# EAGLE library part AVR-ISP6 (library Jim)
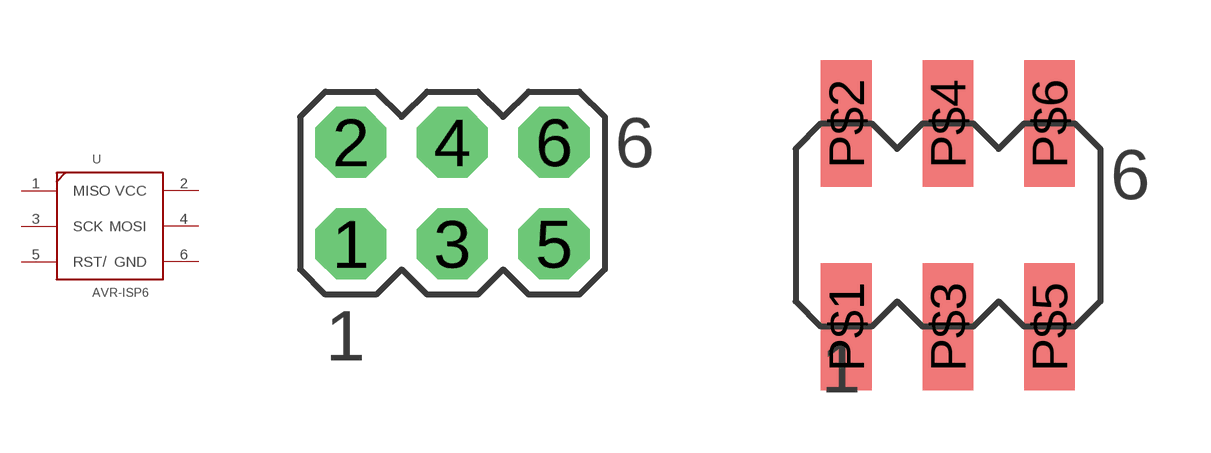
[diagram p22: symbol with the pads of MA03-2; footprints MA03-2, 2X3SMD]

Designator prefix -

## AVR-ISP6  [MA03-2]
1  MISO
2  VCC  pwr
3  SCK
4  MOSI
5  RST/
6  GND  pwr

## AVR-ISP6-SMD  [2X3SMD]
P$1  MISO
P$2  VCC  pwr
P$3  SCK
P$4  MOSI
P$5  RST/
P$6  GND  pwr

## Footprint MA03-2 (pad centres in mm)
PIN HEADER
drill 1.016 pad 1.778 octagon: 1 -2.54,-1.27; 2 -2.54,1.27; 3 0,-1.27; 4 0,1.27; 5 2.54,-1.27; 6 2.54,1.27

## Footprint 2X3SMD (pad centres in mm)
smd 1.27 x 3.175: P$1 -2.54,-2.54; P$2 -2.54,2.54; P$3 0,-2.54; P$4 0,2.54; P$5 2.54,-2.54; P$6 2.54,2.54